# Altium footprint library E2842.PcbLib: 1 footprints
Each footprint in its own frame and in the unit in brackets; x right, y up, seen from the top. Pads: shape width x height; smd on the part's side, far side on the other; paste and mask are expansions set on the pad; w line width, h text height; cw(c..) or ccw(c..) is an arc to the next point about the centre after c.
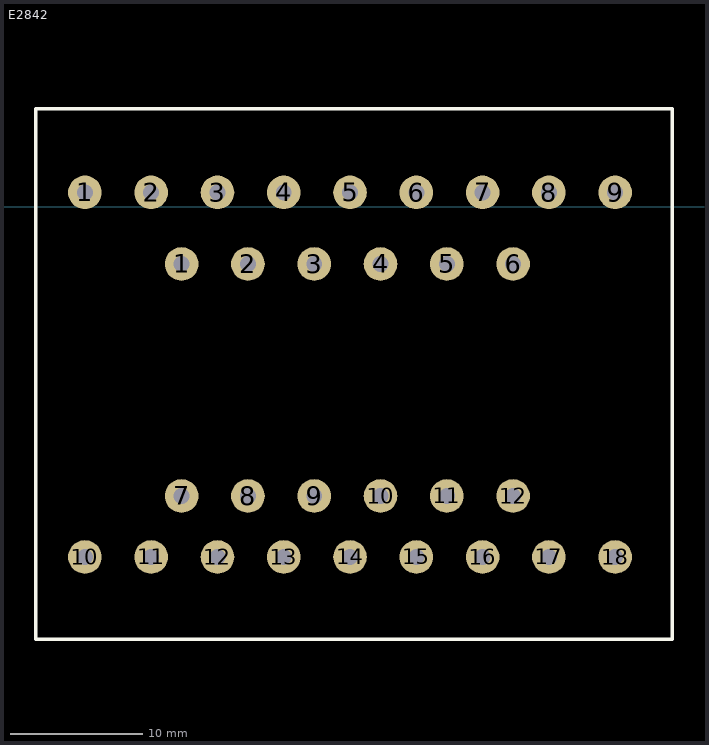
[diagram p0: the footprint, top view; thin cyan lines are the x and y axes]

## E2842 [mm]
pads (30):
  round 2.54 hole 1.2: 1(-55.9,1.1) 1(-48.6,-4.3) 2(-50.9,1.1) 2(-43.6,-4.3) 3(-45.9,1.1) 3(-38.6,-4.3) 4(-40.9,1.1) 4(-33.6,-4.3) 5(-35.9,1.1) 5(-28.6,-4.3) 6(-30.9,1.1) 6(-23.6,-4.3) 7(-48.6,-21.8) 7(-25.9,1.1) 8(-43.6,-21.8) 8(-20.9,1.1) 9(-38.6,-21.8) 9(-15.9,1.1) 10(-55.9,-26.4) 10(-33.6,-21.8) 11(-50.9,-26.4) 11(-28.6,-21.8) 12(-45.9,-26.4) 12(-23.6,-21.8) 13(-40.9,-26.4) 14(-35.9,-26.4) 15(-30.9,-26.4) 16(-25.9,-26.4) 17(-20.9,-26.4) 18(-15.9,-26.4)
Top Overlay:
  lines w0.254: -59.6,-32.6 -59.6,7.4 -11.6,7.4 -11.6,-32.6 -59.6,-32.6